# EAGLE library part NMJ6HCD2 (library NewSDR)
NEUTRIK TRS Phono Jack - TN, RN, SN Not Connected or Shown
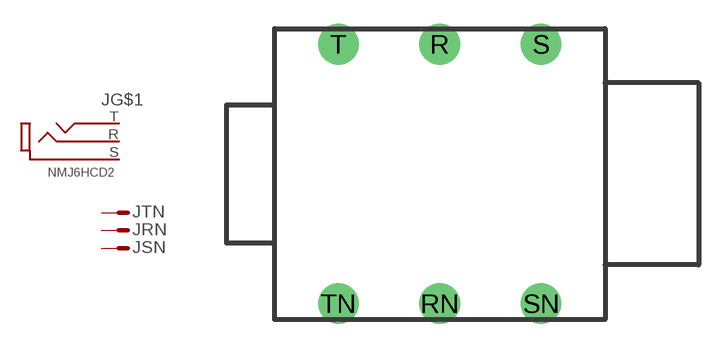
[diagram p73: symbol with the pads of NMJ6HCD2; footprint NMJ6HCD2]

Designator prefix J; gates G$1=TRS_PHONO TN=M RN=M SN=M

## NMJ6HCD2  [NMJ6HCD2]
R  G$1:3R  pas
RN  RN:M  pas
S  G$1:1S  pas
SN  SN:M  pas
T  G$1:2T  pas
TN  TN:M  pas

## Footprint NMJ6HCD2 (pad centres in mm)
Neutrik 1/4" Phone Jack
drill 1.4 pad 2.54: R 0,8.115; RN 0,-8.115; S 6.35,8.115; SN 6.35,-8.115; T -6.35,8.115; TN -6.35,-8.115